# EAGLE library part ATMEGA1284 (library greg)
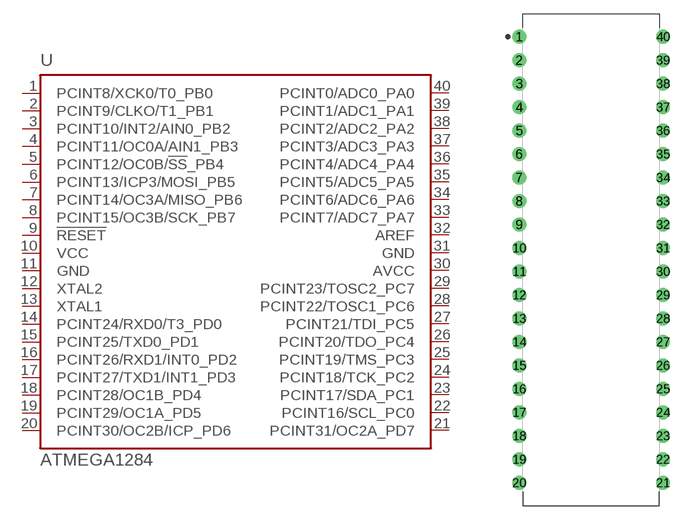
[diagram p2: symbol with the pads of DIP1555W55P254L5175H635Q40B; footprint DIP1555W55P254L5175H635Q40B]

Designator prefix -

## ATMEGA1284-20PU  [DIP1555W55P254L5175H635Q40B]
1  PCINT8/XCK0/T0_PB0
2  PCINT9/CLKO/T1_PB1
3  PCINT10/INT2/AIN0_PB2
4  PCINT11/OC0A/AIN1_PB3
5  PCINT12/OC0B/!SS!_PB4
6  PCINT13/ICP3/MOSI_PB5
7  PCINT14/OC3A/MISO_PB6
8  PCINT15/OC3B/SCK_PB7
9  !RESET  in
10  VCC  pwr
11  GND  pwr
12  XTAL2  out
13  XTAL1  in
14  PCINT24/RXD0/T3_PD0
15  PCINT25/TXD0_PD1
16  PCINT26/RXD1/INT0_PD2
17  PCINT27/TXD1/INT1_PD3
18  PCINT28/OC1B_PD4
19  PCINT29/OC1A_PD5
20  PCINT30/OC2B/ICP_PD6
21  PCINT31/OC2A_PD7
22  PCINT16/SCL_PC0
23  PCINT17/SDA_PC1
24  PCINT18/TCK_PC2
25  PCINT19/TMS_PC3
26  PCINT20/TDO_PC4
27  PCINT21/TDI_PC5
28  PCINT22/TOSC1_PC6
29  PCINT23/TOSC2_PC7
30  AVCC  pwr
31  GND  pwr
32  AREF  pas
33  PCINT7/ADC7_PA7
34  PCINT6/ADC6_PA6
35  PCINT5/ADC5_PA5
36  PCINT4/ADC4_PA4
37  PCINT3/ADC3_PA3
38  PCINT2/ADC2_PA2
39  PCINT1/ADC1_PA1
40  PCINT0/ADC0_PA0

## Footprint DIP1555W55P254L5175H635Q40B (pad centres in mm)
40-DIP, 2.54 mm (0.10 in) pitch, 15.55 mm (0.61 in) span, 51.75 X 13.53 X 6.35 mm body 40-pin DIP package with 2.54 mm (0.10 in) pitch, 15.55 mm (0.61 in) span with body size 51.75 X 13.53 X 6.35 mm
drill 0.876 pad 1.476: 1 -7.777,24.13; 2 -7.777,21.59; 3 -7.777,19.05; 4 -7.777,16.51; 5 -7.777,13.97; 6 -7.777,11.43; 7 -7.777,8.89; 8 -7.777,6.35; 9 -7.777,3.81; 10 -7.777,1.27; 11 -7.777,-1.27; 12 -7.777,-3.81; 13 -7.777,-6.35; 14 -7.777,-8.89; 15 -7.777,-11.43; 16 -7.777,-13.97; 17 -7.777,-16.51; 18 -7.777,-19.05; 19 -7.777,-21.59; 20 -7.777,-24.13; 21 7.777,-24.13; 22 7.777,-21.59; 23 7.777,-19.05; 24 7.777,-16.51; 25 7.777,-13.97; 26 7.777,-11.43; 27 7.777,-8.89; 28 7.777,-6.35; 29 7.777,-3.81; 30 7.777,-1.27; 31 7.777,1.27; 32 7.777,3.81; 33 7.777,6.35; 34 7.777,8.89; 35 7.777,11.43; 36 7.777,13.97; 37 7.777,16.51; 38 7.777,19.05; 39 7.777,21.59; 40 7.777,24.13